# EAGLE library part BS2P40 (library BASIC_Stamps)
BASIC Stamp 2p40 has the same functions as the BS2p24 except it has 32 I/O pins
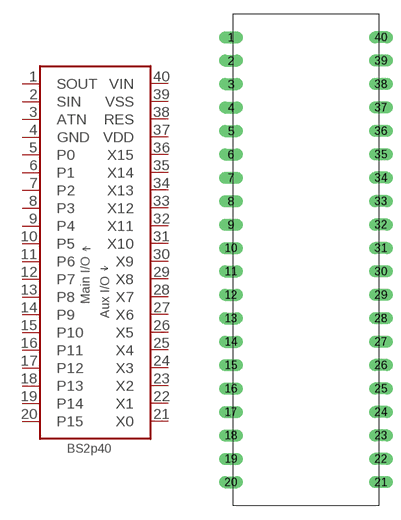
[diagram p0: symbol with the pads of DIL40; footprint DIL40]

Designator prefix -

## BS2P4032_I/O  [DIL40]
1  SOUT  out
2  SIN  in
3  ATN
4  GND  sup
5  P0
6  P1
7  P2
8  P3
9  P4
10  P5
11  P6
12  P7
13  P8
14  P9
15  P10
16  P11
17  P12
18  P13
19  P14
20  P15
21  X0
22  X1
23  X2
24  X3
25  X4
26  X5
27  X6
28  X7
29  X8
30  X9
31  X10
32  X11
33  X12
34  X13
35  X14
36  X15
37  VDD  pwr
38  RES  out
39  VSS  sup
40  VIN  pwr

## Footprint DIL40 (pad centres in mm)
40 pin DIL .62 in. X 2.1 in. w/ .1 in. pin spacing
drill 0.813 long: 1 -8.128,24.13; 2 -8.128,21.59; 3 -8.128,19.05; 4 -8.128,16.51; 5 -8.128,13.97; 6 -8.128,11.43; 7 -8.128,8.89; 8 -8.128,6.35; 9 -8.128,3.81; 10 -8.128,1.27; 11 -8.128,-1.27; 12 -8.128,-3.81; 13 -8.128,-6.35; 14 -8.128,-8.89; 15 -8.128,-11.43; 16 -8.128,-13.97; 17 -8.128,-16.51; 18 -8.128,-19.05; 19 -8.128,-21.59; 20 -8.128,-24.13; 21 8.128,-24.13; 22 8.128,-21.59; 23 8.128,-19.05; 24 8.128,-16.51; 25 8.128,-13.97; 26 8.128,-11.43; 27 8.128,-8.89; 28 8.128,-6.35; 29 8.128,-3.81; 30 8.128,-1.27; 31 8.128,1.27; 32 8.128,3.81; 33 8.128,6.35; 34 8.128,8.89; 35 8.128,11.43; 36 8.128,13.97; 37 8.128,16.51; 38 8.128,19.05; 39 8.128,21.59; 40 8.128,24.13